# Altium schematic symbol library MCP16311T-E_MS.SchLib: 1 symbol
Pins are listed as number, name and electrical type; pins without a type are passive.

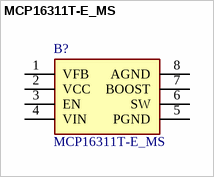
[diagram p0: symbol MCP16311T-E_MS]

## MCP16311T-E_MS
designator B?
Switching Controllers 30V Input, 1A, PWM/PFM Synchronous Buck Switching Regulator; Manufacturer_Name: Microchip; Manufacturer_Part_Number: MCP16311T-E/MS; Geometry.Height: 1.1mm; Mouser Part Number: 579-MCP16311T-E/MS; Mouser Price/Stock: https://www.mouser.co.uk/ProductDetail/Microchip-Technology/MCP16311T-E-MS?qs=6qKXPk0vzx2zQnbX%252ByvukA%3D%3D; Datasheet Link: https://ms.componentsearchengine.com/Datasheets/2/MCP16311T-E_MS.pdf
footprint SOP65P490X110-8N
pins: 1 VFB, 2 VCC, 3 EN, 4 VIN, 5 PGND, 6 SW, 7 BOOST, 8 AGND